# Altium schematic symbol library DCAV32_WINGLET_SCHLIB.SchLib: 26 symbols
Pins are listed as number, name and electrical type; pins without a type are passive.

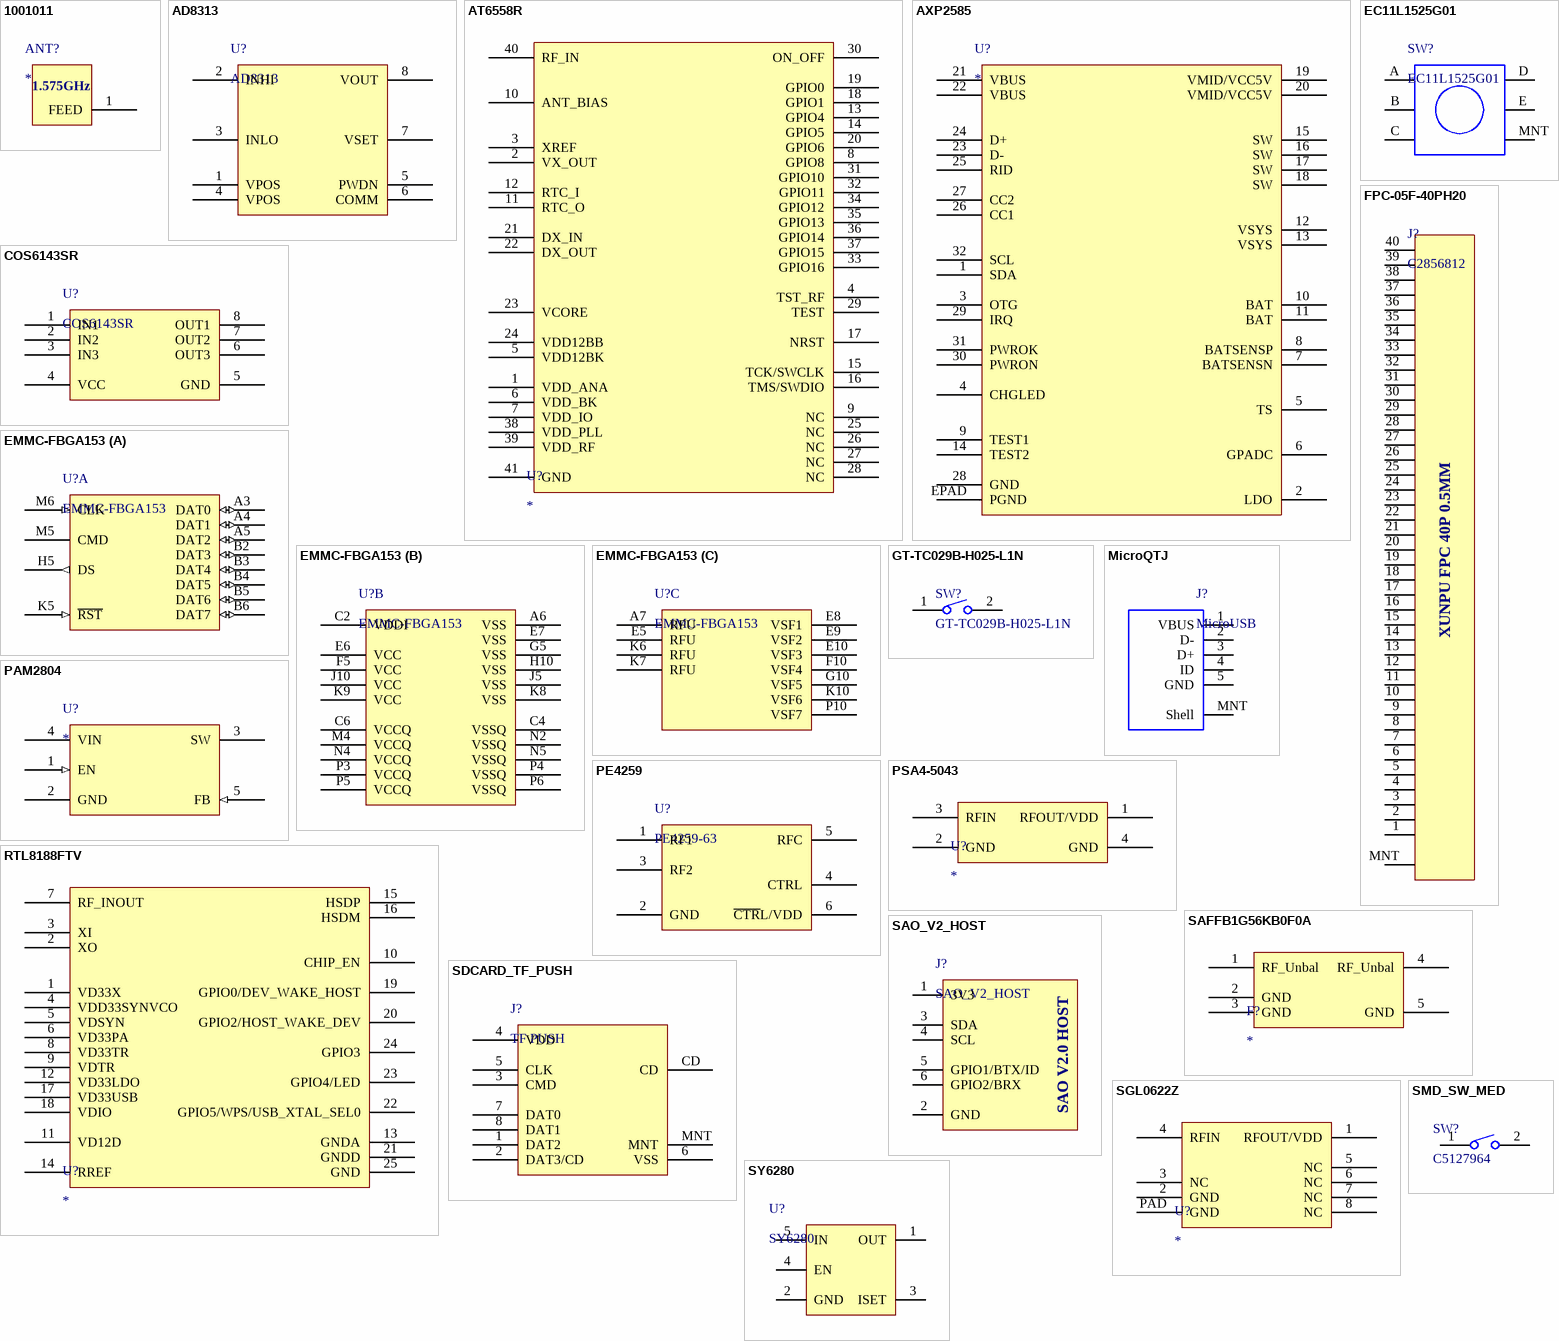
[diagram p0: symbols 1001011 to SY6280]

## 1001011
designator ANT?
GPS/GLONASS/Beidou/Galileo (On/Off Ground) or ISM FR4 Antenna / 1.561, 1.575, 1.603 GHz or 868-928 MHz
footprint ANT1001011
pins: 1 FEED
text: 1.575GHz

## AD8313
designator U?
0.1 GHz to 2.5 GHz 70 dB Logarithmic Detector/Controller
footprint TSOP65P490X110-8N-AD8313 (TSOP, 8-Leads, Body 3.00x3.00mm, Pitch 0.65mm, IPC Medium Density)
pins: 1 VPOS, 2 INHI, 3 INLO, 4 VPOS, 5 PWDN, 6 COMM, 7 VSET, 8 VOUT

## AT6558R
designator U?
GNSS/BDS Satellite Positioning SOC
footprint QFN40P500X500X90_HS-41N (QFN, 40-Leads, Body 5.00x5.00mm, Pitch 0.40mm, Thermal Pad 3.40x3.40mm, IPC Medium Density)
pins: 1 VDD_ANA, 2 VX_OUT, 3 XREF, 4 TST_RF, 5 VDD12BK, 6 VDD_BK, 7 VDD_IO, 8 GPIO8, 9 NC, 10 ANT_BIAS, 11 RTC_O, 12 RTC_I, 13 GPIO4, 14 GPIO5, 15 TCK/SWCLK, 16 TMS/SWDIO, 17 NRST, 18 GPIO1, 19 GPIO0, 20 GPIO6, 21 DX_IN, 22 DX_OUT, 23 VCORE, 24 VDD12BB, 25 NC, 26 NC, 27 NC, 28 NC, 29 TEST, 30 ON_OFF, 31 GPIO10, 32 GPIO11, 33 GPIO16, 34 GPIO12, 35 GPIO13, 36 GPIO14, 37 GPIO15, 38 VDD_PLL, 39 VDD_RF, 40 RF_IN, 41 GND

## AXP2585
designator U?
AXP2585 Single Cell NVDC BMU with E-gauge
footprint QFN127P600-8N (QFN32_0P4_XPOWERS)
pins: 1 SDA, 2 LDO, 3 OTG, 4 CHGLED, 5 TS, 6 GPADC, 7 BATSENSN, 8 BATSENSP, 9 TEST1, 10 BAT, 11 BAT, 12 VSYS, 13 VSYS, 14 TEST2, 15 SW, 16 SW, 17 SW, 18 SW, 19 VMID/VCC5V, 20 VMID/VCC5V, 21 VBUS, 22 VBUS, 23 D-, 24 D+, 25 RID, 26 CC1, 27 CC2, 28 GND, 29 IRQ, 30 PWRON, 31 PWROK, 32 SCL, EPAD PGND

## COS6143SR
designator U?
Triple, 6th Order, Standard Definition Video Filter Driver
footprint SOP127P600X175-8N (SOP, 8-Leads, Body 4.89x3.90mm, Pitch 1.27mm, IPC Medium Density)
pins: 1 IN1, 2 IN2, 3 IN3, 4 VCC, 5 GND, 6 OUT3, 7 OUT2, 8 OUT1

## EC11L1525G01
designator SW?
EC11L1525G01 Rotary Encoder with Pushbutton
footprint LCSC_ALPS_EC11L1525G01 (ALPS_EC11L1525G01)
pins: A, B, C, D, E, MNT

## EMMC-FBGA153
designator U?
FLASH - NAND (MLC) Memory IC 32Gb (4G x 8) eMMC 5.1 153-FBGA (11.5x13)
footprint BGA153C50P14X14_1150X1300X100 (BGA, 153-Leads, Body 11.50x13.00mmx1.00mm, Pitch 0.50mm)
part A pins: A3 DAT0 (io), A4 DAT1 (io), A5 DAT2 (io), B2 DAT3 (io), B3 DAT4 (io), B4 DAT5 (io), B5 DAT6 (io), B6 DAT7 (io), H5 DS (out), K5 ~{RST} (in), M5 CMD, M6 CLK (in)
part B pins: A6 VSS (power), C2 VDDI (power), C4 VSSQ (power), C6 VCCQ (power), E6 VCC (power), E7 VSS (power), F5 VCC (power), G5 VSS (power), H10 VSS (power), J5 VSS (power), J10 VCC (power), K8 VSS (power), K9 VCC (power), M4 VCCQ (power), N2 VSSQ (power), N4 VCCQ (power), N5 VSSQ (power), P3 VCCQ (power), P4 VSSQ (power), P5 VCCQ (power), P6 VSSQ (power)
part C pins: A7 RFU (hiz), E5 RFU (hiz), E8 VSF1 (hiz), E9 VSF2 (hiz), E10 VSF3 (hiz), F10 VSF4 (hiz), G10 VSF5 (hiz), K6 RFU (hiz), K7 RFU (hiz), K10 VSF6 (hiz), P10 VSF7 (hiz)

## FPC-05F-40PH20
designator J?, comment C2856812
XUNPU FPC 40P 0.5MM / C2856812
footprint LCSC_FPC_40P_0P5MM (C2856812)
pins: 1, 2, 3, 4, 5, 6, 7, 8, 9, 10, 11, 12, 13, 14, 15, 16, 17, 18, 19, 20, 21, 22, 23, 24, 25, 26, 27, 28, 29, 30, 31, 32, 33, 34, 35, 36, 37, 38, 39, 40, MNT
text: XUNPU FPC 40P 0.5MM

## GT-TC029B-H025-L1N
designator SW?
SMD SPST Tactile Switch / C843669
footprint LCSC_SMD_SW_SMALL (C843669)
pins: 1, 2

## MicroQTJ
designator J?, comment MicroUSB
MicroQTJ MicroUSB CONN
footprint LCSC_MicroQTJ
pins: 1 VBUS, 2 D-, 3 D+, 4 ID, 5 GND, MNT Shell

## PAM2804
designator U?
1A 1.5MHz STEP-DOWN CONSTANT CURRENT, HIGH EFFICIENCY LED DRIVER
footprint SOT95P292X115-5N (SOT23, 5-Leads, Body 2.92x2.92mm, Pitch 0.95mm, IPC Medium Density)
pins: 1 EN (in), 2 GND, 3 SW, 4 VIN, 5 FB (in)

## PE4259
designator U?, comment PE4259-63
SPDT High Power UltraCMOS® / 10 MHz–3.0 GHz RF Switch
footprint SOT65P210X100-6N (SOT23, 6-Leads, Body 2.05x2.10mm, Pitch 0.65mm, IPC Medium Density)
pins: 1 RF1, 2 GND, 3 RF2, 4 CTRL, 5 RFC, 6 ~{CTR}L/VDD

## PSA4-5043
designator U?
50Ω 0.05 to 4 GHz Ultra-Low Noise MMIC Amplifier
footprint SOT343P210X110-4N-MMM (SOT343, 4-Leads, Body 2.05x2.10mm, Minicircuits MMM, IPC Medium Density)
pins: 1 RFOUT/VDD, 2 GND, 3 RFIN, 4 GND

## RTL8188FTV
designator U?
Single-chip IEEE 812.11b/g/n 1T1R WLAN
footprint QFN50P400X400X90_HS-25N_RTL (QFN, 24-Leads, Body 4.00x4.00mm, Pitch 0.50mm, Thermal Pad 2.23x2.23mm, IPC Medium Density, Realtek)
pins: 1 VD33X, 2 XO, 3 XI, 4 VDD33SYNVCO, 5 VDSYN, 6 VD33PA, 7 RF_INOUT, 8 VD33TR, 9 VDTR, 10 CHIP_EN, 11 VD12D, 12 VD33LDO, 13 GNDA, 14 RREF, 15 HSDP, 16 HSDM, 17 VD33USB, 18 VDIO, 19 GPIO0/DEV_WAKE_HOST, 20 GPIO2/HOST_WAKE_DEV, 21 GNDD, 22 GPIO5/WPS/USB_XTAL_SEL0, 23 GPIO4/LED, 24 GPIO3, 25 GND

## SAFFB1G56KB0F0A
designator F?
SAW FILTER FOR GPS/GLONASS/BEIDOU2 / 1561.10/1575.42/1602 MHz
footprint SAW80P110X50-5L (SAW, 5-Leads, Body 0.90x1.10mm, Pitch 0.40mm, IPC High Density)
pins: 1 RF_Unbal, 2 GND, 3 GND, 4 RF_Unbal, 5 GND

## SAO_V2_HOST
designator J?
SAO V2 Host (Female) Side
footprint SAO_FEMALE (OG Sullins SFH11-NBPC-D03-ST-BK)
pins: 1 3V3, 2 GND, 3 SDA, 4 SCL, 5 GPIO1/BTX/ID, 6 GPIO2/BRX
text: SAO V2.0 HOST

## SDCARD_TF_PUSH
designator J?, comment TF PUSH
MicroSD Card Slot Push-Pull
footprint LCSC_TF_PUSH (C393941)
pins: 1 DAT2, 2 DAT3/CD, 3 CMD, 4 VDD, 5 CLK, 6 VSS, 7 DAT0, 8 DAT1, CD, MNT

## SGL0622Z
designator U?
5 MHz to 4000 MHz, Low-Noise SiGe HBT MMIC Amplifier
footprint SON50P200X90_HS-9N (SON, 8-Leads, Body 2.00x2.00mm, Pitch 0.50mm, Thermal Pad 1.20x0.60mm, IPC Medium Density)
pins: 1 RFOUT/VDD, 2 GND, 3 NC, 4 RFIN, 5 NC, 6 NC, 7 NC, 8 NC, PAD GND

## SMD_SW_MED
designator SW?, comment C5127964
SMD SPST Tactile Switch / C5127964
footprint LCSC_SMD_SW_MED (C5127964)
pins: 1, 2

## SY6280
designator U?
Low Loss Power Distribution Switch
footprint SOT95P292X115-5N (SOT23, 5-Leads, Body 2.92x2.92mm, Pitch 0.95mm, IPC Medium Density)
pins: 1 OUT, 2 GND, 3 ISET, 4 EN, 5 IN

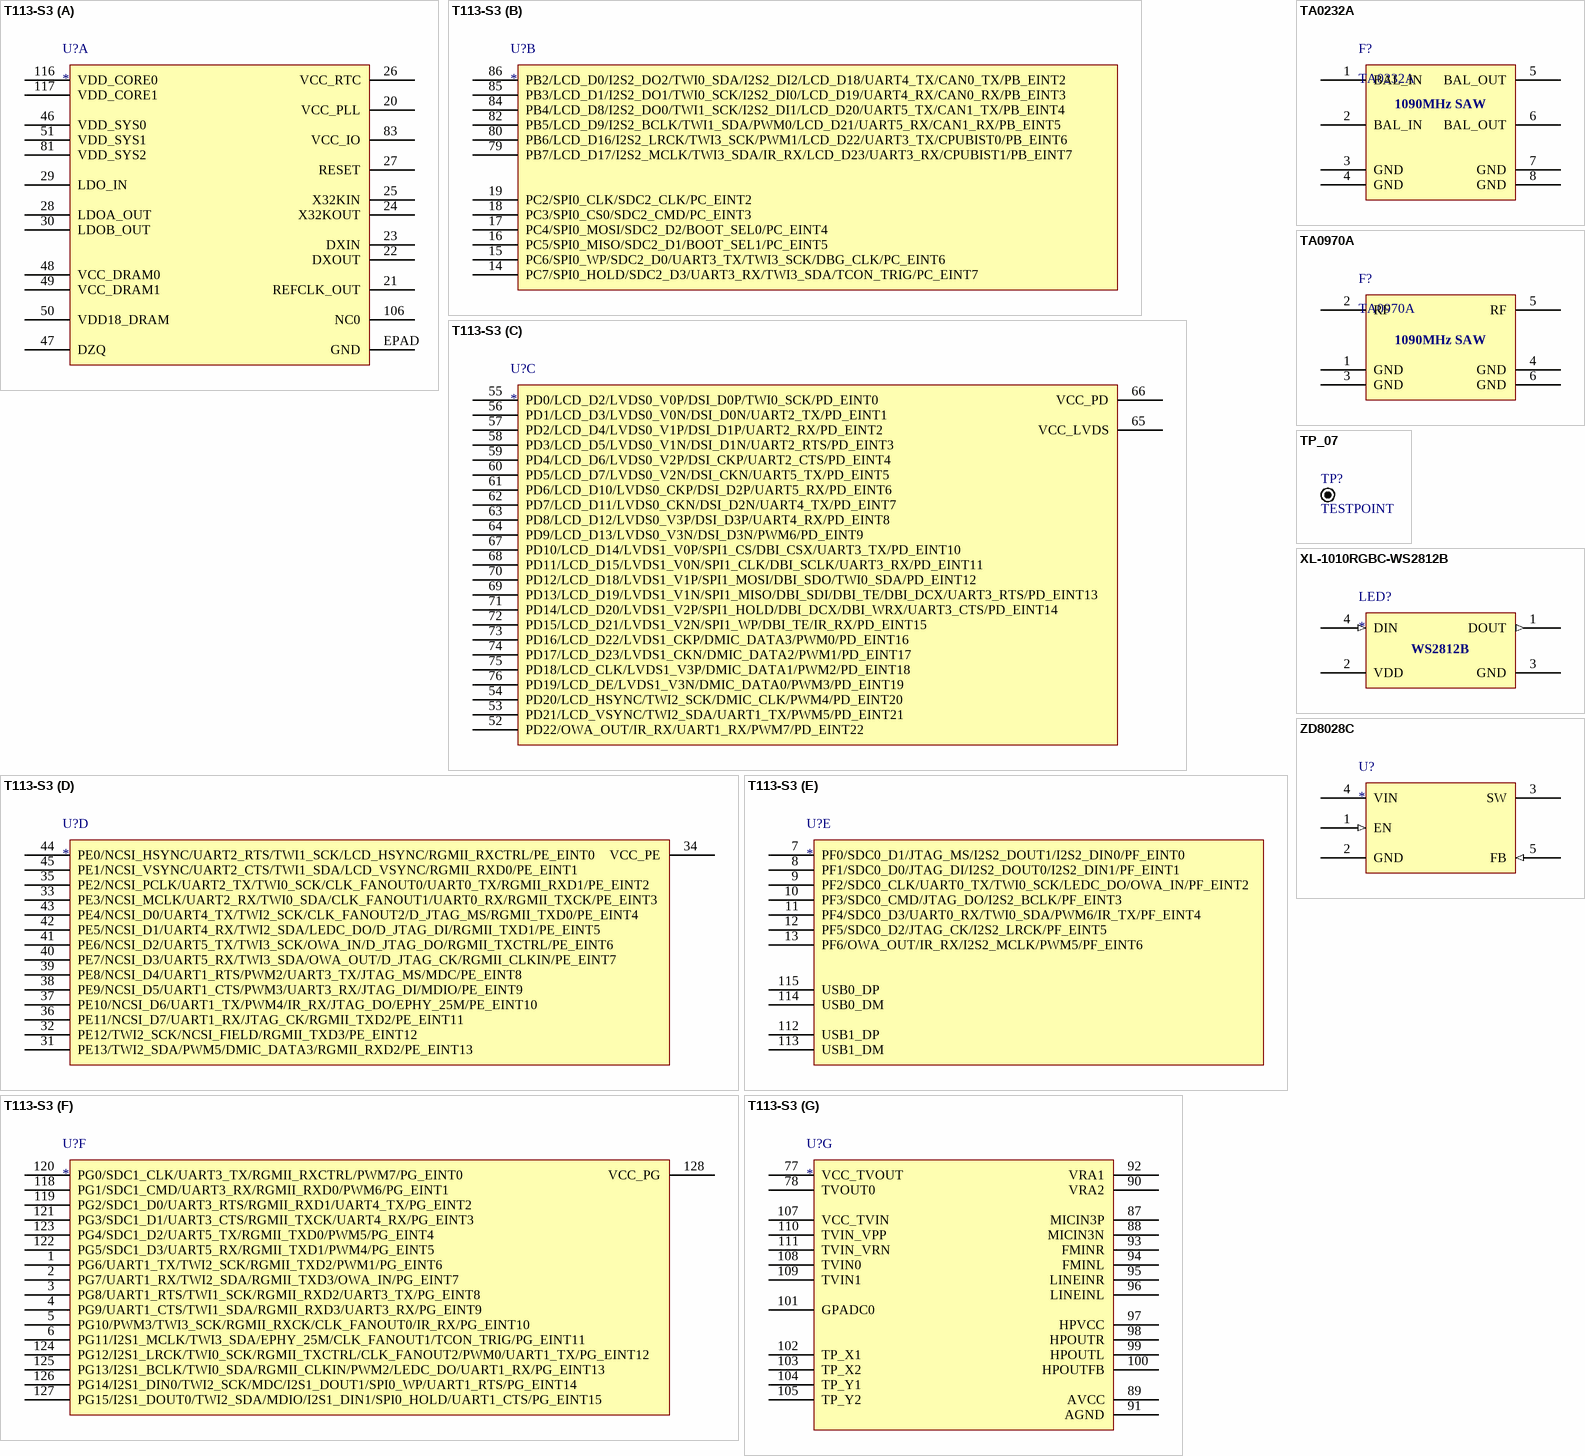
[diagram p1: symbols T113-S3 to ZD8028C]

## T113-S3
designator U?
Allwinner Dual-core ARM Cortex-A7 Smart Control and Display SoC
footprint TSQFP40P1600X1600X160_HS-129N (TSQFP, 128-Leads, Body 14.00x14.00mm, Pitch 0.40mm, Thermal Pad 5.72x5.72mm, IPC Medium Density)
part A pins: 20 VCC_PLL, 21 REFCLK_OUT, 22 DXOUT, 23 DXIN, 24 X32KOUT, 25 X32KIN, 26 VCC_RTC, 27 RESET, 28 LDOA_OUT, 29 LDO_IN, 30 LDOB_OUT, 46 VDD_SYS0, 47 DZQ, 48 VCC_DRAM0, 49 VCC_DRAM1, 50 VDD18_DRAM, 51 VDD_SYS1, 81 VDD_SYS2, 83 VCC_IO, 106 NC0, 116 VDD_CORE0, 117 VDD_CORE1, EPAD GND
part B pins: 14 PC7/SPI0_HOLD/SDC2_D3/UART3_RX/TWI3_SDA/TCON_TRIG/PC_EINT7, 15 PC6/SPI0_WP/SDC2_D0/UART3_TX/TWI3_SCK/DBG_CLK/PC_EINT6, 16 PC5/SPI0_MISO/SDC2_D1/BOOT_SEL1/PC_EINT5, 17 PC4/SPI0_MOSI/SDC2_D2/BOOT_SEL0/PC_EINT4, 18 PC3/SPI0_CS0/SDC2_CMD/PC_EINT3, 19 PC2/SPI0_CLK/SDC2_CLK/PC_EINT2, 79 PB7/LCD_D17/I2S2_MCLK/TWI3_SDA/IR_RX/LCD_D23/UART3_RX/CPUBIST1/PB_EINT7, 80 PB6/LCD_D16/I2S2_LRCK/TWI3_SCK/PWM1/LCD_D22/UART3_TX/CPUBIST0/PB_EINT6, 82 PB5/LCD_D9/I2S2_BCLK/TWI1_SDA/PWM0/LCD_D21/UART5_RX/CAN1_RX/PB_EINT5, 84 PB4/LCD_D8/I2S2_DO0/TWI1_SCK/I2S2_DI1/LCD_D20/UART5_TX/CAN1_TX/PB_EINT4, 85 PB3/LCD_D1/I2S2_DO1/TWI0_SCK/I2S2_DI0/LCD_D19/UART4_RX/CAN0_RX/PB_EINT3, 86 PB2/LCD_D0/I2S2_DO2/TWI0_SDA/I2S2_DI2/LCD_D18/UART4_TX/CAN0_TX/PB_EINT2
part C pins: 52 PD22/OWA_OUT/IR_RX/UART1_RX/PWM7/PD_EINT22, 53 PD21/LCD_VSYNC/TWI2_SDA/UART1_TX/PWM5/PD_EINT21, 54 PD20/LCD_HSYNC/TWI2_SCK/DMIC_CLK/PWM4/PD_EINT20, 55 PD0/LCD_D2/LVDS0_V0P/DSI_D0P/TWI0_SCK/PD_EINT0, 56 PD1/LCD_D3/LVDS0_V0N/DSI_D0N/UART2_TX/PD_EINT1, 57 PD2/LCD_D4/LVDS0_V1P/DSI_D1P/UART2_RX/PD_EINT2, 58 PD3/LCD_D5/LVDS0_V1N/DSI_D1N/UART2_RTS/PD_EINT3, 59 PD4/LCD_D6/LVDS0_V2P/DSI_CKP/UART2_CTS/PD_EINT4, 60 PD5/LCD_D7/LVDS0_V2N/DSI_CKN/UART5_TX/PD_EINT5, 61 PD6/LCD_D10/LVDS0_CKP/DSI_D2P/UART5_RX/PD_EINT6, 62 PD7/LCD_D11/LVDS0_CKN/DSI_D2N/UART4_TX/PD_EINT7, 63 PD8/LCD_D12/LVDS0_V3P/DSI_D3P/UART4_RX/PD_EINT8, 64 PD9/LCD_D13/LVDS0_V3N/DSI_D3N/PWM6/PD_EINT9, 65 VCC_LVDS, 66 VCC_PD, 67 PD10/LCD_D14/LVDS1_V0P/SPI1_CS/DBI_CSX/UART3_TX/PD_EINT10, 68 PD11/LCD_D15/LVDS1_V0N/SPI1_CLK/DBI_SCLK/UART3_RX/PD_EINT11, 69 PD13/LCD_D19/LVDS1_V1N/SPI1_MISO/DBI_SDI/DBI_TE/DBI_DCX/UART3_RTS/PD_EINT13, 70 PD12/LCD_D18/LVDS1_V1P/SPI1_MOSI/DBI_SDO/TWI0_SDA/PD_EINT12, 71 PD14/LCD_D20/LVDS1_V2P/SPI1_HOLD/DBI_DCX/DBI_WRX/UART3_CTS/PD_EINT14, 72 PD15/LCD_D21/LVDS1_V2N/SPI1_WP/DBI_TE/IR_RX/PD_EINT15, 73 PD16/LCD_D22/LVDS1_CKP/DMIC_DATA3/PWM0/PD_EINT16, 74 PD17/LCD_D23/LVDS1_CKN/DMIC_DATA2/PWM1/PD_EINT17, 75 PD18/LCD_CLK/LVDS1_V3P/DMIC_DATA1/PWM2/PD_EINT18, 76 PD19/LCD_DE/LVDS1_V3N/DMIC_DATA0/PWM3/PD_EINT19
part D pins: 31 PE13/TWI2_SDA/PWM5/DMIC_DATA3/RGMII_RXD2/PE_EINT13, 32 PE12/TWI2_SCK/NCSI_FIELD/RGMII_TXD3/PE_EINT12, 33 PE3/NCSI_MCLK/UART2_RX/TWI0_SDA/CLK_FANOUT1/UART0_RX/RGMII_TXCK/PE_EINT3, 34 VCC_PE, 35 PE2/NCSI_PCLK/UART2_TX/TWI0_SCK/CLK_FANOUT0/UART0_TX/RGMII_RXD1/PE_EINT2, 36 PE11/NCSI_D7/UART1_RX/JTAG_CK/RGMII_TXD2/PE_EINT11, 37 PE10/NCSI_D6/UART1_TX/PWM4/IR_RX/JTAG_DO/EPHY_25M/PE_EINT10, 38 PE9/NCSI_D5/UART1_CTS/PWM3/UART3_RX/JTAG_DI/MDIO/PE_EINT9, 39 PE8/NCSI_D4/UART1_RTS/PWM2/UART3_TX/JTAG_MS/MDC/PE_EINT8, 40 PE7/NCSI_D3/UART5_RX/TWI3_SDA/OWA_OUT/D_JTAG_CK/RGMII_CLKIN/PE_EINT7, 41 PE6/NCSI_D2/UART5_TX/TWI3_SCK/OWA_IN/D_JTAG_DO/RGMII_TXCTRL/PE_EINT6, 42 PE5/NCSI_D1/UART4_RX/TWI2_SDA/LEDC_DO/D_JTAG_DI/RGMII_TXD1/PE_EINT5, 43 PE4/NCSI_D0/UART4_TX/TWI2_SCK/CLK_FANOUT2/D_JTAG_MS/RGMII_TXD0/PE_EINT4, 44 PE0/NCSI_HSYNC/UART2_RTS/TWI1_SCK/LCD_HSYNC/RGMII_RXCTRL/PE_EINT0, 45 PE1/NCSI_VSYNC/UART2_CTS/TWI1_SDA/LCD_VSYNC/RGMII_RXD0/PE_EINT1
part E pins: 7 PF0/SDC0_D1/JTAG_MS/I2S2_DOUT1/I2S2_DIN0/PF_EINT0, 8 PF1/SDC0_D0/JTAG_DI/I2S2_DOUT0/I2S2_DIN1/PF_EINT1, 9 PF2/SDC0_CLK/UART0_TX/TWI0_SCK/LEDC_DO/OWA_IN/PF_EINT2, 10 PF3/SDC0_CMD/JTAG_DO/I2S2_BCLK/PF_EINT3, 11 PF4/SDC0_D3/UART0_RX/TWI0_SDA/PWM6/IR_TX/PF_EINT4, 12 PF5/SDC0_D2/JTAG_CK/I2S2_LRCK/PF_EINT5, 13 PF6/OWA_OUT/IR_RX/I2S2_MCLK/PWM5/PF_EINT6, 112 USB1_DP, 113 USB1_DM, 114 USB0_DM, 115 USB0_DP
part F pins: 1 PG6/UART1_TX/TWI2_SCK/RGMII_TXD2/PWM1/PG_EINT6, 2 PG7/UART1_RX/TWI2_SDA/RGMII_TXD3/OWA_IN/PG_EINT7, 3 PG8/UART1_RTS/TWI1_SCK/RGMII_RXD2/UART3_TX/PG_EINT8, 4 PG9/UART1_CTS/TWI1_SDA/RGMII_RXD3/UART3_RX/PG_EINT9, 5 PG10/PWM3/TWI3_SCK/RGMII_RXCK/CLK_FANOUT0/IR_RX/PG_EINT10, 6 PG11/I2S1_MCLK/TWI3_SDA/EPHY_25M/CLK_FANOUT1/TCON_TRIG/PG_EINT11, 118 PG1/SDC1_CMD/UART3_RX/RGMII_RXD0/PWM6/PG_EINT1, 119 PG2/SDC1_D0/UART3_RTS/RGMII_RXD1/UART4_TX/PG_EINT2, 120 PG0/SDC1_CLK/UART3_TX/RGMII_RXCTRL/PWM7/PG_EINT0, 121 PG3/SDC1_D1/UART3_CTS/RGMII_TXCK/UART4_RX/PG_EINT3, 122 PG5/SDC1_D3/UART5_RX/RGMII_TXD1/PWM4/PG_EINT5, 123 PG4/SDC1_D2/UART5_TX/RGMII_TXD0/PWM5/PG_EINT4, 124 PG12/I2S1_LRCK/TWI0_SCK/RGMII_TXCTRL/CLK_FANOUT2/PWM0/UART1_TX/PG_EINT12, 125 PG13/I2S1_BCLK/TWI0_SDA/RGMII_CLKIN/PWM2/LEDC_DO/UART1_RX/PG_EINT13, 126 PG14/I2S1_DIN0/TWI2_SCK/MDC/I2S1_DOUT1/SPI0_WP/UART1_RTS/PG_EINT14, 127 PG15/I2S1_DOUT0/TWI2_SDA/MDIO/I2S1_DIN1/SPI0_HOLD/UART1_CTS/PG_EINT15, 128 VCC_PG
part G pins: 77 VCC_TVOUT, 78 TVOUT0, 87 MICIN3P, 88 MICIN3N, 89 AVCC, 90 VRA2, 91 AGND, 92 VRA1, 93 FMINR, 94 FMINL, 95 LINEINR, 96 LINEINL, 97 HPVCC, 98 HPOUTR, 99 HPOUTL, 100 HPOUTFB, 101 GPADC0, 102 TP_X1, 103 TP_X2, 104 TP_Y1, 105 TP_Y2, 107 VCC_TVIN, 108 TVIN0, 109 TVIN1, 110 TVIN_VPP, 111 TVIN_VRN

## TA0232A
designator F?
SAW Filter 1090MHz Balanced SMD 3.8x3.8mm
footprint LCCS127P380X380X125-8N (LCC, 8-Pins, Body 3.80x3.80mmx1.25mm, Pitch 1.27mm, IPC Medium Density)
pins: 1 BAL_IN, 2 BAL_IN, 3 GND, 4 GND, 5 BAL_OUT, 6 BAL_OUT, 7 GND, 8 GND
text: 1090MHz SAW

## TA0970A
designator F?
SAW Filter 1090MHz Unbalanced SMD 3.8x3.8mm
footprint LCCS127P380X380X125-6N (LCC, 6-Pins, Body 3.80x3.80mmx1.25mm, Pitch 1.27mm, IPC Medium Density)
pins: 1 GND, 2 RF, 3 GND, 4 GND, 5 RF, 6 GND
text: 1090MHz SAW

## TP_07
designator TP?, comment TESTPOINT  (no BOM)
TESTPOINT SINGLE LAYER 0.7MM; AEC-Q: Yes; PPAP: Unknown; Selective Soldering: No; Value: Unknown; RoHS: Yes; Package: BOARD_FEATURE; Washable: Yes; Mounting: Unknown
footprint TESTPOINT-0.7MM-SINGLE-LAYER
pins: 1
1 alternate drawing of the same symbol

## XL-1010RGBC-WS2812B
designator LED?
1010 RGB WS2812B LED 3.5-5.5V
footprint DFN3127P600-8N (XLED-1010RGBC)
pins: 1 DOUT (out), 2 VDD (power), 3 GND (power), 4 DIN (in)
text: WS2812B

## ZD8028C
designator U?
1.5A 2MHz 5.5V Synchronous Buck Converter
footprint SOT95P292X115-5N (SOT23, 5-Leads, Body 2.92x2.92mm, Pitch 0.95mm, IPC Medium Density)
pins: 1 EN (in), 2 GND, 3 SW, 4 VIN, 5 FB (in)